# Altium schematic symbol library ArduinoSchem.SchLib: 1 symbol
Pins are listed as number, name and electrical type; pins without a type are passive.

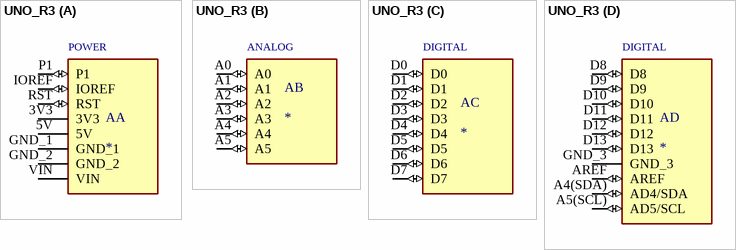
[diagram p0: symbol UNO_R3]

## UNO_R3
designator A
ATmega328P Arduino Uno R3 AVRÂ® ATmega AVR MCU 8-Bit Embedded Evaluation Board; MP: UNO R3; Digi-Key_Part_Number: 1050-1024-ND; Package: None; Digi-Key_Purchase_URL: https://www.digikey.com/product-detail/en/arduino/A000066/1050-1024-ND/2784006?utm_source=snapeda&utm_medium=aggregator&utm_campaign=symbol; MF: Arduino; Value: *; SnapEDA_Link: https://www.snapeda.com/parts/UNO%20R3/Arduino/view-part/584858/?ref=snap
footprint ARDUINO_UNO_R3; pin to pad A4(SDA)>A4(SDA
part A pins: 3V3 (power), 5V (power), GND_1 (power), GND_2 (power), IOREF (io), P1 (io), RST (io), VIN (power)
part B pins: A0 (io), A1 (io), A2 (io), A3 (io), A4 (io), A5 (io)
part C pins: D0 (io), D1 (io), D2 (io), D3 (io), D4 (io), D5 (io), D6 (io), D7 (io)
part D pins: A4(SDA) AD4/SDA (io), A5(SCL) AD5/SCL (io), AREF (io), D8 (io), D9 (io), D10 (io), D11 (io), D12 (io), D13 (io), GND_3 (power)
part A text: POWER
part B text: ANALOG
part C text: DIGITAL
part D text: DIGITAL